# Altium integrated library SMA_RightAngle.IntLib: 1 symbol
Pins are listed as number, name and electrical type; pins without a type are passive.

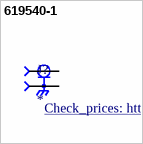
[diagram p0: symbol 619540-1]

## 619540-1
designator J?
SMA Connector Jack, Female Socket 50Ohm Through Hole, Right Angle Solder; MP: 619540-1; MF: TE Connectivity; Price: None; SnapEDA_Link: https://www.snapeda.com/parts/619540-1/TE%20Connectivity%20AMP%20Connectors/view-part/1309756/?ref=snap; Availability: Good; Purchase-URL: https://pricing.snapeda.com/search/part/619540-1/?ref=eda; Value: *; Package: None; Check_prices: https://www.snapeda.com/parts/619540-1/TE%20Connectivity%20AMP%20Connectors/view-part/1309756/?ref=eda
footprint TE_619540-1
pins: 1, S1 2, S2 2, S3 2, S4 2